# EAGLE library part ZX62D-B-5PA8 (library ZX62D-B-5PA8)
CONN RCPT USB Check prices <https://pricing.snapeda.com/parts/ZX62D-B-5PA8/Hirose/view-part?ref=eda>
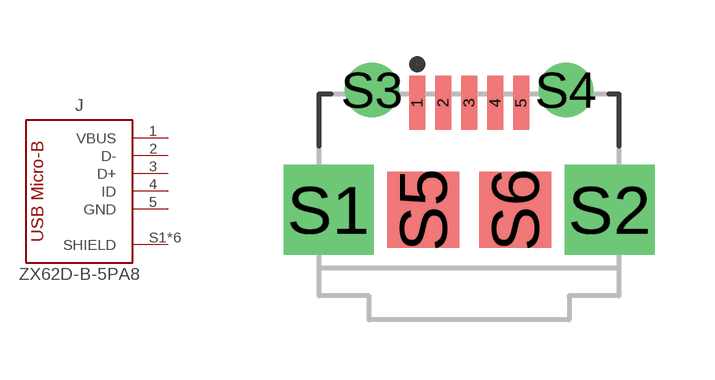
[diagram p0: symbol with the pads of HIROSE_ZX62D-B-5PA8; footprint HIROSE_ZX62D-B-5PA8]

Designator prefix J

## ZX62D-B-5PA8 (AVAILABILITY: Bad; DESCRIPTION: USB - micro B USB 2.0 Receptacle Connector 5 Position Surface Mount, Right Angle; Through Hole; MF: Hirose; MP: ZX62D-B-5PA8; PACKAGE: None; PRICE: None)  [HIROSE_ZX62D-B-5PA8]
1  VBUS  pas
2  D-  pas
3  D+  pas
4  ID  pas
5  GND  pas
S1  SHIELD  pwr
S2  SHIELD  pwr
S3  SHIELD  pwr
S4  SHIELD  pwr
S5  SHIELD  pwr
S6  SHIELD  pwr

## Footprint HIROSE_ZX62D-B-5PA8 (pad centres in mm)
smd 0.4 x 1.35: 1 -1.3,2.675; 2 -0.65,2.675; 3 0,2.675; 4 0.65,2.675; 5 1.3,2.675
drill 1.5 square: S1 -3.513,0; S2 3.513,0
drill 0.85: S3 -2.425,3; S4 2.425,3
smd 1.8 x 1.9: S5 -1.15,0; S6 1.15,0